# EAGLE library part ATF1504AS (library 68komputer)
ATF1504AS - 64 Macrocell 5V CPLD Datasheet <http://ww1.microchip.com/downloads/en/DeviceDoc/Atmel-0950-CPLD-ATF1504AS(L)-Datasheet.pdf>
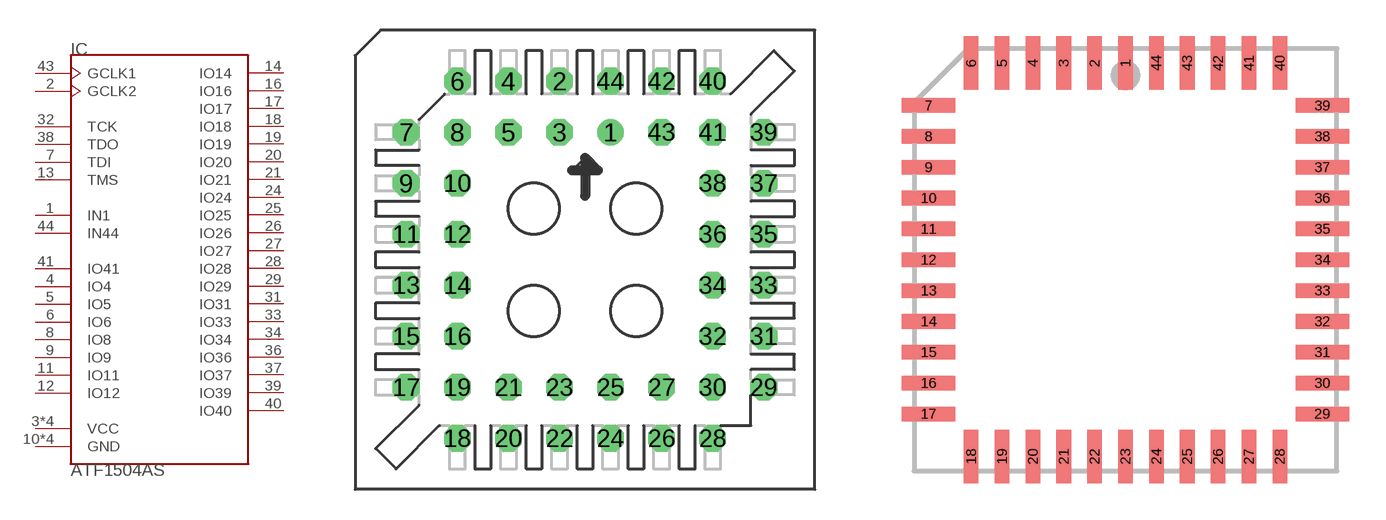
[diagram p16: symbol with the pads of PLCC-S44; footprints PLCC-S44, PLCC44S]

Designator prefix IC

## ATF1504ASPLCC44-SOCKET (MOUSER: 556-AF1504AS10JU44)  [PLCC-S44]
1  IN1  in
2  GCLK2  in
3  VCC  pwr
4  IO4  in
5  IO5  in
6  IO6  in
7  TDI  in
8  IO8  in
9  IO9  in
10  GND  pwr
11  IO11  in
12  IO12  in
13  TMS
14  IO14  in
15  VCC  pwr
16  IO16  in
17  IO17  in
18  IO18  in
19  IO19  in
20  IO20  in
21  IO21  in
22  GND  pwr
23  VCC  pwr
24  IO24  in
25  IO25  in
26  IO26  in
27  IO27  in
28  IO28  in
29  IO29  in
30  GND  pwr
31  IO31  in
32  TCK
33  IO33  in
34  IO34  in
35  VCC  pwr
36  IO36  in
37  IO37  in
38  TDO  out
39  IO39  in
40  IO40  in
41  IO41
42  GND  pwr
43  GCLK1  in
44  IN44  in

## ATF1504ASPLCC44 (MOUSER: 556-AF1504AS10JU44)  [PLCC44S]
Pads as for PLCC-S44

## Footprint PLCC-S44 (pad centres in mm)
Plastic Leaded Chip Carrier Socked
drill 0.813: 1 1.27,6.35
drill 0.813 octagon: 2 -1.27,8.89; 3 -1.27,6.35; 4 -3.81,8.89; 5 -3.81,6.35; 6 -6.35,8.89; 7 -8.89,6.35; 8 -6.35,6.35; 9 -8.89,3.81; 10 -6.35,3.81; 11 -8.89,1.27; 12 -6.35,1.27; 13 -8.89,-1.27; 14 -6.35,-1.27; 15 -8.89,-3.81; 16 -6.35,-3.81; 17 -8.89,-6.35; 18 -6.35,-8.89; 19 -6.35,-6.35; 20 -3.81,-8.89; 21 -3.81,-6.35; 22 -1.27,-8.89; 23 -1.27,-6.35; 24 1.27,-8.89; 25 1.27,-6.35; 26 3.81,-8.89; 27 3.81,-6.35; 28 6.35,-8.89; 29 8.89,-6.35; 30 6.35,-6.35; 31 8.89,-3.81; 32 6.35,-3.81; 33 8.89,-1.27; 34 6.35,-1.27; 35 8.89,1.27; 36 6.35,1.27; 37 8.89,3.81; 38 6.35,3.81; 39 8.89,6.35; 40 6.35,8.89; 41 6.35,6.35; 42 3.81,8.89; 43 3.81,6.35; 44 1.27,8.89

## Footprint PLCC44S (pad centres in mm)
PLASTIC LEADED CHIP CARRIER square
smd 0.6 x 2.2: 1 0,8.1; 2 -1.27,8.1; 3 -2.54,8.1; 4 -3.81,8.1; 5 -5.08,8.1; 6 -6.35,8.1; 18 -6.35,-8.1; 19 -5.08,-8.1; 20 -3.81,-8.1; 21 -2.54,-8.1; 22 -1.27,-8.1; 23 0,-8.1; 24 1.27,-8.1; 25 2.54,-8.1; 26 3.81,-8.1; 27 5.08,-8.1; 28 6.35,-8.1; 40 6.35,8.1; 41 5.08,8.1; 42 3.81,8.1; 43 2.54,8.1; 44 1.27,8.1
smd 2.2 x 0.6: 7 -8.1,6.35; 8 -8.1,5.08; 9 -8.1,3.81; 10 -8.1,2.54; 11 -8.1,1.27; 12 -8.1,0; 13 -8.1,-1.27; 14 -8.1,-2.54; 15 -8.1,-3.81; 16 -8.1,-5.08; 17 -8.1,-6.35; 29 8.1,-6.35; 30 8.1,-5.08; 31 8.1,-3.81; 32 8.1,-2.54; 33 8.1,-1.27; 34 8.1,0; 35 8.1,1.27; 36 8.1,2.54; 37 8.1,3.81; 38 8.1,5.08; 39 8.1,6.35